# EAGLE library part EC11E1534408 (library EC11E1534408)
Mechanical Encoder Rotary Incremental Flat 0.007N.m Straight Quadrature Digital Square Wave 15PPR Through Hole PC Pin Automotive Source: Datasheet <https://datasheet.lcsc.com/szlcsc/ALPS-Electric-EC11E1534408_C278348.pdf>
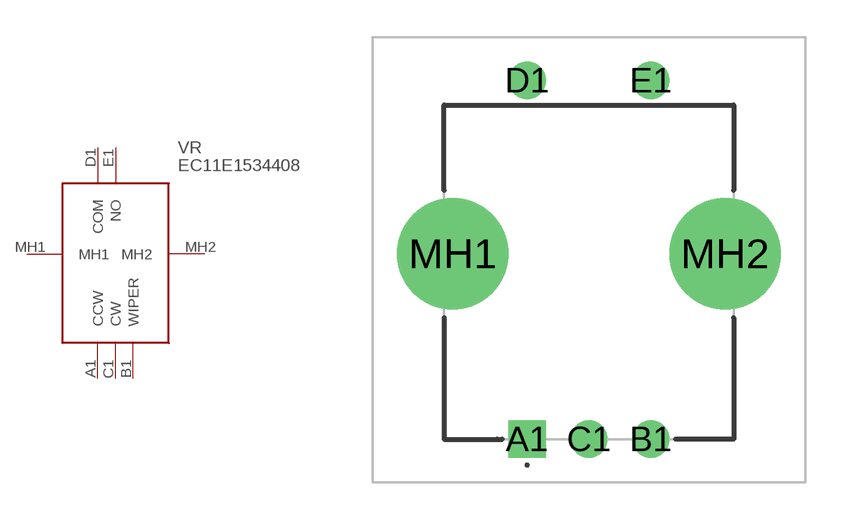
[diagram p0: symbol with the pads of EC11E1534408; footprint EC11E1534408]

Designator prefix VR

## EC11E1534408 (Description: Mechanical Encoder Rotary Incremental Flat 0.007N.m Straight Quadrature Digital Square Wave 15PPR Through Hole PC Pin Automotive; Height: 24.5mm; Manufacturer_Name: ALPS Electric; Manufacturer_Part_Number: EC11E1534408; Mouser_Part_Number: 688-EC11E1534408; Mouser_Price-Stock: https://www.mouser.co.uk/ProductDetail/Alps-Alpine/EC11E1534408?qs=PoKhxlfUXjJk5yy1jIb28A%3D%3D)  [EC11E1534408]
A1  CCW
B1  WIPER
C1  CW
D1  COM
E1  NO
MH1  MH1
MH2  MH2

## Footprint EC11E1534408 (pad centres in mm)
EC11E1534408-3
drill 1 pad 1.5 square: A1 0,0
drill 1 pad 1.5: B1 5,0; C1 2.5,0; D1 0,14.5; E1 5,14.5
drill 3 pad 4.5: MH1 -3,7.5; MH2 8,7.5